# EAGLE library part ICS501 (library ics501)
The ICS501 LOCOTM is the most cost effective way to generate a high-quality, high-frequency clock output from a lower frequency crystal or clock input. The name LOCO stands for Low Cost Oscillator, as it is designed to replace crystal oscillators in most electronic systems. Using Phase-Locked Loop (PLL) techniques, the device uses a standard fundamental mode, inexpensive crystal to produce output clocks up to 160 MHz.
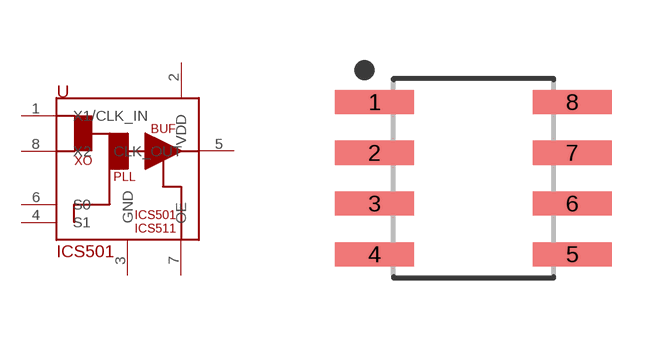
[diagram p0: symbol with the pads of SOIC127P600X175-8N; footprint SOIC127P600X175-8N]

Designator prefix -

## ICS501 (PARTNO: ICS501)  [SOIC127P600X175-8N]
1  X1/CLK_IN
2  VDD
3  GND
4  S1
5  CLK_OUT
6  S0
7  OE
8  X2

## Footprint SOIC127P600X175-8N (pad centres in mm)
8-SOIC, 1.27 mm pitch, 6.00 mm span, 4.90 X 3.90 X 1.75 mm body 8-pin SOIC package with 1.27 mm pitch, 6.00 mm span with body size 4.90 X 3.90 X 1.75 mm
smd 1.968 x 0.602: 1 -2.473,1.905; 2 -2.473,0.635; 3 -2.473,-0.635; 4 -2.473,-1.905; 5 2.473,-1.905; 6 2.473,-0.635; 7 2.473,0.635; 8 2.473,1.905